# EAGLE library part EFM-FIDO_STM32L432KCU6 (library USB-C)
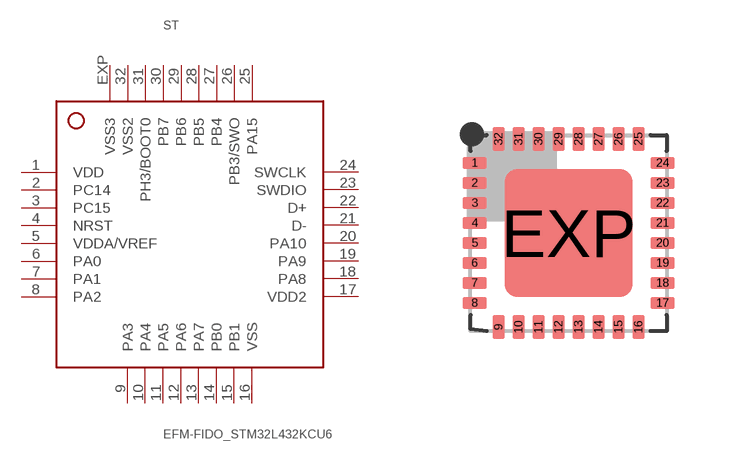
[diagram p1: symbol with the pads of EFM-FIDO_QFN32; footprint EFM-FIDO_QFN32]

Designator prefix ST

## EFM-FIDO_STM32L432KCU6  [EFM-FIDO_QFN32]
1  VDD
2  PC14
3  PC15
4  NRST
5  VDDA/VREF
6  PA0
7  PA1
8  PA2
9  PA3
10  PA4
11  PA5
12  PA6
13  PA7
14  PB0
15  PB1
16  VSS
17  VDD2
18  PA8
19  PA9
20  PA10
21  D-
22  D+
23  SWDIO
24  SWCLK
25  PA15
26  PB3/SWO
27  PB4
28  PB5
29  PB6
30  PB7
31  PH3/BOOT0
32  VSS2
EXP  VSS3

## Footprint EFM-FIDO_QFN32 (pad centres in mm)
QFN 32 5 x 5 mm Source: http://datasheets.maxim-ic.com/en/ds/MAX7042.pdf
smd 0.6 x 0.3: 1 -2.35,1.75; 2 -2.35,1.25; 3 -2.35,0.75; 4 -2.35,0.25; 5 -2.35,-0.25; 6 -2.35,-0.75; 7 -2.35,-1.25; 8 -2.35,-1.75; 17 2.35,-1.75; 18 2.35,-1.25; 19 2.35,-0.75; 20 2.35,-0.25; 21 2.35,0.25; 22 2.35,0.75; 23 2.35,1.25; 24 2.35,1.75
smd 0.3 x 0.6: 9 -1.75,-2.35; 10 -1.25,-2.35; 11 -0.75,-2.35; 12 -0.25,-2.35; 13 0.25,-2.35; 14 0.75,-2.35; 15 1.25,-2.35; 16 1.75,-2.35; 25 1.75,2.35; 26 1.25,2.35; 27 0.75,2.35; 28 0.25,2.35; 29 -0.25,2.35; 30 -0.75,2.35; 31 -1.25,2.35; 32 -1.75,2.35
smd 3.2 x 3.2: EXP 0,0